# EAGLE library part K4M28163PF (library zz-m-pad-2.1)
SAMSUNG's K4M28163PF - R(B)G/F Mobile-SDRAM 2M x 16Bit x 4 Banks Mobile SDRAM in 54FBGA Organization : 8Mx16 Vdd/Vddq : 1.8V/1.8V Icc1/Icc6 : 40mA/250uA Speed : 133MHz, CL3; 111MHz, CL3; 105MHz, CL3 Please send any comments to: messi@users.sourceforge.net
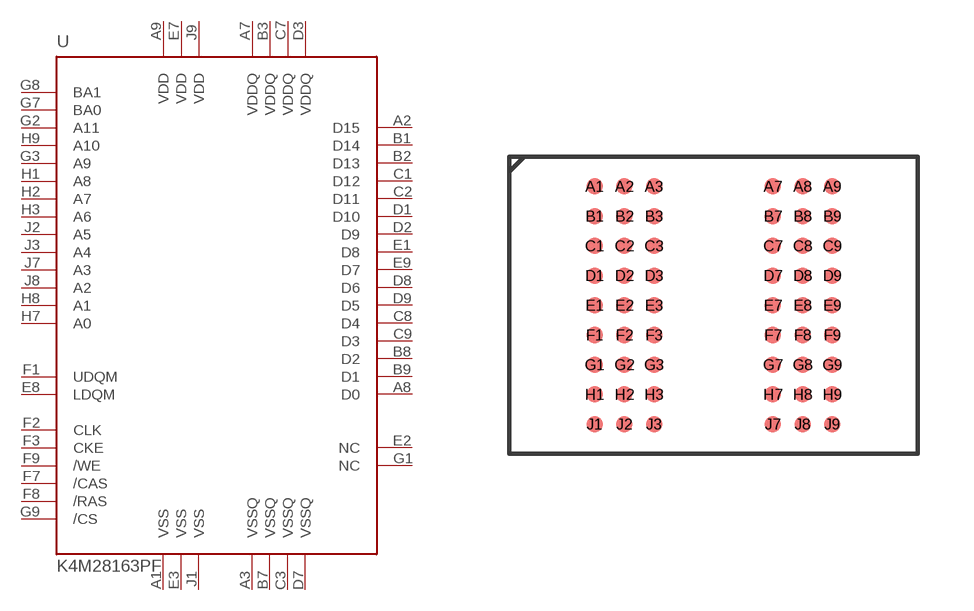
[diagram p19: symbol with the pads of 54FBGA; footprint 54FBGA]

Designator prefix U

## K4M28163PF  [54FBGA]
A1  VSS  pwr
A2  D15
A3  VSSQ  pwr
A7  VDDQ  pwr
A8  D0
A9  VDD  pwr
B1  D14
B2  D13
B3  VDDQ  pwr
B7  VSSQ  pwr
B8  D2
B9  D1
C1  D12
C2  D11
C3  VSSQ  pwr
C7  VDDQ  pwr
C8  D4
C9  D3
D1  D10
D2  D9
D3  VDDQ  pwr
D7  VSSQ  pwr
D8  D6
D9  D5
E1  D8
E2  NC  nc
E3  VSS  pwr
E7  VDD  pwr
E8  LDQM
E9  D7
F1  UDQM
F2  CLK
F3  CKE
F7  /CAS
F8  /RAS
F9  /WE
G1  NC  nc
G2  A11
G3  A9
G7  BA0
G8  BA1
G9  /CS
H1  A8
H2  A7
H3  A6
H7  A0
H8  A1
H9  A10
J1  VSS  pwr
J2  A5
J3  A4
J7  A3
J8  A2
J9  VDD  pwr

## Footprint 54FBGA (pad centres in mm)
54 PIN FBGA Pitch: 0.8mm balldiameter 0.5mm Please send any comments to: messi@users.sourceforge.net
smd 0.45 x 0.45: A1 -3.2,3.2; A2 -2.4,3.2; A3 -1.6,3.2; A7 1.6,3.2; A8 2.4,3.2; A9 3.2,3.2; B1 -3.2,2.4; B2 -2.4,2.4; B3 -1.6,2.4; B7 1.6,2.4; B8 2.4,2.4; B9 3.2,2.4; C1 -3.2,1.6; C2 -2.4,1.6; C3 -1.6,1.6; C7 1.6,1.6; C8 2.4,1.6; C9 3.2,1.6; D1 -3.2,0.8; D2 -2.4,0.8; D3 -1.6,0.8; D7 1.6,0.8; D8 2.4,0.8; D9 3.2,0.8; E1 -3.2,0; E2 -2.4,0; E3 -1.6,0; E7 1.6,0; E8 2.4,0; E9 3.2,0; F1 -3.2,-0.8; F2 -2.4,-0.8; F3 -1.6,-0.8; F7 1.6,-0.8; F8 2.4,-0.8; F9 3.2,-0.8; G1 -3.2,-1.6; G2 -2.4,-1.6; G3 -1.6,-1.6; G7 1.6,-1.6; G8 2.4,-1.6; G9 3.2,-1.6; H1 -3.2,-2.4; H2 -2.4,-2.4; H3 -1.6,-2.4; H7 1.6,-2.4; H8 2.4,-2.4; H9 3.2,-2.4; J1 -3.2,-3.2; J2 -2.4,-3.2; J3 -1.6,-3.2; J7 1.6,-3.2; J8 2.4,-3.2; J9 3.2,-3.2